# Altium schematic symbol library ABS07-120-32.768KHZ-T.Schlib: 1 symbol
Pins are listed as number, name and electrical type; pins without a type are passive.

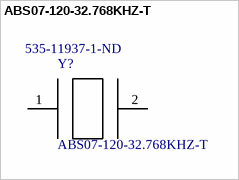
[diagram p0: symbol ABS07-120-32.768KHZ-T]

## ABS07-120-32.768KHZ-T
designator Y?  Supplier Part Number 1: 535-11937-1-ND
3.2 x 1.5mm, 32.768KHZ Xtal 6pf, 20ppm, -40+85C, ESR 60kOhm, ST Micro Ref Design Crystal for STM32L; MF: Abracon; Description: CRYSTAL 32.7680KHZ 6PF SMD; ESR (Equivalent Series Resistance): 55kR; Series Resistance: 60kR; MP: ABS07-120-32.768KHZ-T; SnapEDA_Link: https://www.snapeda.com/parts/ABS07-120-32.768KHZ-T/Abracon%20LLC/view-part/?ref=snap; Package: SMD-2 Abracon; Price: 0.37 USD; Availability: Good; Value: *; Supplier 1: Digi-Key; Manufacturer: Abracon; Manufacturer Part Number: ABS07-120-32.768KHZ-T; Stock 1: 213739; Pricing 1: 1=0.57, 10=0.473, 50=0.4258, 100=0.3784, 500=0.35948, 1000=0.30272 (USD); Mount: Surface Mount; Case/Package: SMD/SMT; Number of Pins: 2; Min Operating Temperature: -40°C; Max Operating Temperature: 85°C; Tolerance: 20ppm; Frequency: 32.768kHz; Load Capacitance: 6pF; Frequency Tolerance: 20ppm; Packaging: Tape and Reel; Package Quantity: 3000; Termination: SMD/SMT; Length: 3.2mm; Height: 0.035inch; Width: 0.061inch; Depth: 1.5mm; Radiation Hardening: No; REACH SVHC: No SVHC; Lead Free: Lead Free; ComponentLink1URL: https://www.verical.com/server-webapp/html/getDatasheet?partID=722402&src-supplier=Verical; ComponentLink1Description: https://www.verical.com/server-webapp/html/getDatasheet?partID=722402&src-supplier=Verical; ComponentLink2URL: https://abracon.com/Support/PackageDrawing/Resonators/ABS07-120.PDF?src-supplier=Digi-Key; ComponentLink2Description: https://abracon.com/Support/PackageDrawing/Resonators/ABS07-120.PDF?src-supplier=Digi-Key; ComponentLink3URL: http://www.mouser.com/ds/2/3/ABS07-120-32.768kHz-T-218607.pdf?src-supplier=Mouser; ComponentLink3Description: http://www.mouser.com/ds/2/3/ABS07-120-32.768kHz-T-218607.pdf?src-supplier=Mouser
footprint ABS07-120-32.768 (32.768 kHz crystal)
pins: 1, 2